# EAGLE library part DSPIC33FJ64GS608 (library CameraGantry)
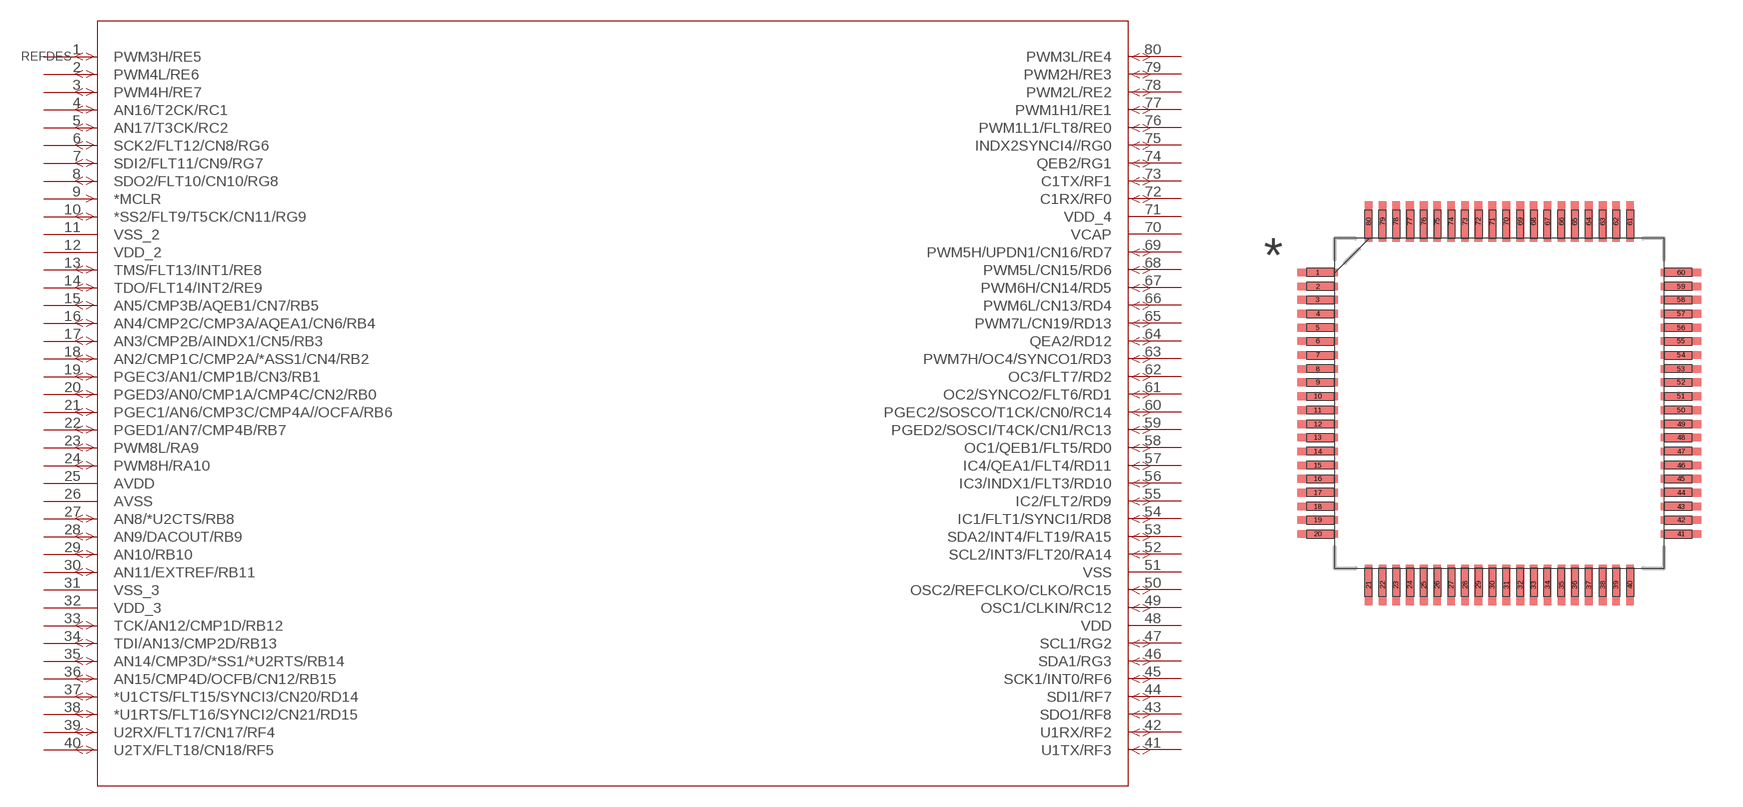
[diagram p1: symbol with the pads of TQFP80_12X12MC; footprint TQFP80_12X12MC]

Designator prefix -

## DSPIC33FJ64GS608  [TQFP80_12X12MC]
1  PWM3H/RE5  pas
2  PWM4L/RE6  pas
3  PWM4H/RE7  pas
4  AN16/T2CK/RC1  pas
5  AN17/T3CK/RC2  pas
6  SCK2/FLT12/CN8/RG6  pas
7  SDI2/FLT11/CN9/RG7  pas
8  SDO2/FLT10/CN10/RG8  pas
9  *MCLR  pas
10  *SS2/FLT9/T5CK/CN11/RG9  pas
11  VSS_2  pas
12  VDD_2  pas
13  TMS/FLT13/INT1/RE8  pas
14  TDO/FLT14/INT2/RE9  pas
15  AN5/CMP3B/AQEB1/CN7/RB5  pas
16  AN4/CMP2C/CMP3A/AQEA1/CN6/RB4  pas
17  AN3/CMP2B/AINDX1/CN5/RB3  pas
18  AN2/CMP1C/CMP2A/*ASS1/CN4/RB2  pas
19  PGEC3/AN1/CMP1B/CN3/RB1  pas
20  PGED3/AN0/CMP1A/CMP4C/CN2/RB0  pas
21  PGEC1/AN6/CMP3C/CMP4A//OCFA/RB6  pas
22  PGED1/AN7/CMP4B/RB7  pas
23  PWM8L/RA9  pas
24  PWM8H/RA10  pas
25  AVDD  pas
26  AVSS  pas
27  AN8/*U2CTS/RB8  pas
28  AN9/DACOUT/RB9  pas
29  AN10/RB10  pas
30  AN11/EXTREF/RB11  pas
31  VSS_3  pas
32  VDD_3  pas
33  TCK/AN12/CMP1D/RB12  pas
34  TDI/AN13/CMP2D/RB13  pas
35  AN14/CMP3D/*SS1/*U2RTS/RB14  pas
36  AN15/CMP4D/OCFB/CN12/RB15  pas
37  *U1CTS/FLT15/SYNCI3/CN20/RD14  pas
38  *U1RTS/FLT16/SYNCI2/CN21/RD15  pas
39  U2RX/FLT17/CN17/RF4  pas
40  U2TX/FLT18/CN18/RF5  pas
41  U1TX/RF3  pas
42  U1RX/RF2  pas
43  SDO1/RF8  pas
44  SDI1/RF7  pas
45  SCK1/INT0/RF6  pas
46  SDA1/RG3  pas
47  SCL1/RG2  pas
48  VDD  pas
49  OSC1/CLKIN/RC12  pas
50  OSC2/REFCLKO/CLKO/RC15  pas
51  VSS  pas
52  SCL2/INT3/FLT20/RA14  pas
53  SDA2/INT4/FLT19/RA15  pas
54  IC1/FLT1/SYNCI1/RD8  pas
55  IC2/FLT2/RD9  pas
56  IC3/INDX1/FLT3/RD10  pas
57  IC4/QEA1/FLT4/RD11  pas
58  OC1/QEB1/FLT5/RD0  pas
59  PGED2/SOSCI/T4CK/CN1/RC13  pas
60  PGEC2/SOSCO/T1CK/CN0/RC14  pas
61  OC2/SYNCO2/FLT6/RD1  pas
62  OC3/FLT7/RD2  pas
63  PWM7H/OC4/SYNCO1/RD3  pas
64  QEA2/RD12  pas
65  PWM7L/CN19/RD13  pas
66  PWM6L/CN13/RD4  pas
67  PWM6H/CN14/RD5  pas
68  PWM5L/CN15/RD6  pas
69  PWM5H/UPDN1/CN16/RD7  pas
70  VCAP  pas
71  VDD_4  pas
72  C1RX/RF0  pas
73  C1TX/RF1  pas
74  QEB2/RG1  pas
75  INDX2SYNCI4//RG0  pas
76  PWM1L1/FLT8/RE0  pas
77  PWM1H1/RE1  pas
78  PWM2L/RE2  pas
79  PWM2H/RE3  pas
80  PWM3L/RE4  pas

## Footprint TQFP80_12X12MC (pad centres in mm)
smd 1.473 x 0.279: 1 -6.604,4.75; 2 -6.604,4.242; 3 -6.604,3.759; 4 -6.604,3.251; 5 -6.604,2.743; 6 -6.604,2.261; 7 -6.604,1.753; 8 -6.604,1.245; 9 -6.604,0.762; 10 -6.604,0.254; 11 -6.604,-0.254; 12 -6.604,-0.762; 13 -6.604,-1.245; 14 -6.604,-1.753; 15 -6.604,-2.261; 16 -6.604,-2.743; 17 -6.604,-3.251; 18 -6.604,-3.759; 19 -6.604,-4.242; 20 -6.604,-4.75; 41 6.604,-4.75; 42 6.604,-4.242; 43 6.604,-3.759; 44 6.604,-3.251; 45 6.604,-2.743; 46 6.604,-2.261; 47 6.604,-1.753; 48 6.604,-1.245; 49 6.604,-0.762; 50 6.604,-0.254; 51 6.604,0.254; 52 6.604,0.762; 53 6.604,1.245; 54 6.604,1.753; 55 6.604,2.261; 56 6.604,2.743; 57 6.604,3.251; 58 6.604,3.759; 59 6.604,4.242; 60 6.604,4.75
smd 0.279 x 1.473: 21 -4.75,-6.604; 22 -4.242,-6.604; 23 -3.759,-6.604; 24 -3.251,-6.604; 25 -2.743,-6.604; 26 -2.261,-6.604; 27 -1.753,-6.604; 28 -1.245,-6.604; 29 -0.762,-6.604; 30 -0.254,-6.604; 31 0.254,-6.604; 32 0.762,-6.604; 33 1.245,-6.604; 34 1.753,-6.604; 35 2.261,-6.604; 36 2.743,-6.604; 37 3.251,-6.604; 38 3.759,-6.604; 39 4.242,-6.604; 40 4.75,-6.604; 61 4.75,6.604; 62 4.242,6.604; 63 3.759,6.604; 64 3.251,6.604; 65 2.743,6.604; 66 2.261,6.604; 67 1.753,6.604; 68 1.245,6.604; 69 0.762,6.604; 70 0.254,6.604; 71 -0.254,6.604; 72 -0.762,6.604; 73 -1.245,6.604; 74 -1.753,6.604; 75 -2.261,6.604; 76 -2.743,6.604; 77 -3.251,6.604; 78 -3.759,6.604; 79 -4.242,6.604; 80 -4.75,6.604